# Altium footprint library LEDs.PcbLib: 2 footprints
Each footprint in its own frame and in the unit in brackets; x right, y up, seen from the top. Pads: shape width x height; smd on the part's side, far side on the other; paste and mask are expansions set on the pad; w line width, h text height; cw(c..) or ccw(c..) is an arc to the next point about the centre after c.
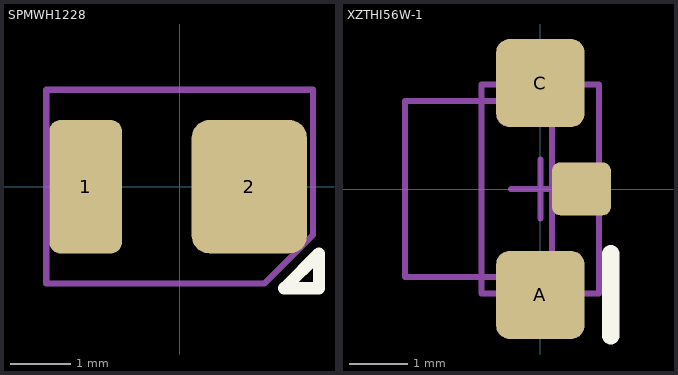
[diagram p0: the footprints below, top view; thin cyan lines are the x and y axes]

## SPMWH1228 [mm]
pads (2):
  rrect30% 1.2x2.2 smd paste-0.05 mask+0.02: 1(-1.55,0)
  rrect30% 1.9x2.2 smd paste-0.05 mask+0.02: 2(1.15,0)
Top Overlay:
  lines w0.2: 1.725,-1.675 2.3,-1.675 2.3,-1.1 1.725,-1.675
Assembly:
  lines w0.1: -2.2,-1.6 1.4,-1.6 2.2,-0.8 2.2,1.6 -2.2,1.6 -2.2,-1.6
  text ".Designator" at -2.025,-0.3 h1.1
3D body: height 0.65, standoff 0, extent -1.75,-1.4 1.75,1.4

## XZTHI56W-1 [mm]
height 0.8
pads (3):
  rrect30% 1.5x1.5 smd paste-0.06: A(0,-1.802) C(0,1.802)
  rrect30% 1x0.9 smd paste-0.06: ""(0.7,0.002)
Top Overlay:
  lines w0.3: 1.2,-2.5 1.2,-1.1
Mechanical 13:
  lines w0.1: -2.3,-1.5 0.2,-1.5 0.2,1.5 -2.3,1.5 -2.3,-1.5
Mechanical 15:
  lines w0.1: -0.5,0 0.5,0 ; 0,-0.5 0,0.5 ; -1,-1.775 1,-1.775 1,1.775 -1,1.775 -1,-1.775
3D body "XZxx56x-1.step": height 1, standoff 0, extent -2.292,-1.5 0.2,1.5